# Altium footprint library Vowstar_Transformer.PcbLib: 1 footprints
Each footprint in its own frame and in the unit in brackets; x right, y up, seen from the top. Pads: shape width x height; smd on the part's side, far side on the other; paste and mask are expansions set on the pad; w line width, h text height; cw(c..) or ccw(c..) is an arc to the next point about the centre after c.
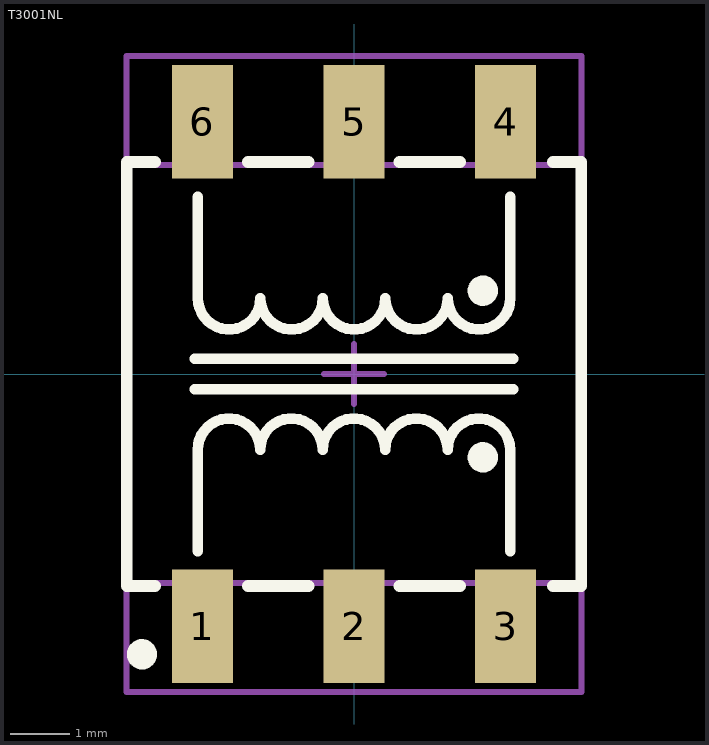
[diagram p0: the footprint, top view; thin cyan lines are the x and y axes]

## T3001NL [mil] "T3001NL"
height 250
pads (6):
  rect 40x75 smd: 1(-100,-166.5) 2(0,-166.5) 3(100,-166.5) 4(100,166.5) 5(0,166.5) 6(-100,166.5)
Top Overlay:
  circle w10: c85,55 r5
  circle w10: c85,-55 r5
  circle w10: c-140,-185 r5
  lines w7: -105,-10 105,-10 ; -105,10 105,10 ; -103.16,-116.84 -103.16,-50 cw(c-82.54,-50) -61.92,-50 cw(c-41.31,-50) -20.69,-50 cw(c-0.08,-50) 20.54,-50 cw(c41.15,-50) 61.77,-50 cw(c82.38,-50) 103,-50 103,-116.84 ; -103,116.84 -103,50 ccw(c-82.38,50) -61.77,50 ccw(c-41.15,50) -20.54,50 ccw(c0.08,50) 20.69,50 ccw(c41.31,50) 61.92,50 ccw(c82.54,50) 103.16,50 103.16,116.84
  lines w7.87: -131.25,-140 -150,-140 -150,140 -131.25,140 ; -70,-140 -30,-140 ; -70,140 -30,140 ; 30,-140 70,-140 ; 30,140 70,140 ; 131.25,-140 150,-140 150,140 131.25,140
Mechanical 13:
  lines w3.94: -150,-137.8 -150,137.8 150,137.8 150,-137.8 -150,-137.8
Mechanical 15:
  lines w3.94: -19.69,0 19.69,0 ; 0,-19.69 0,19.69 ; -150,-210 -150,210 150,210 150,-210 -150,-210
3D body: height 250, standoff 0, extent -150,-137.8 150,137.8